# Altium schematic symbol library CHS-01TA.Schlib: 1 symbol
Pins are listed as number, name and electrical type; pins without a type are passive.

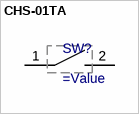
[diagram p0: symbol CHS-01TA]

## CHS-01TA
designator SW?
NIDEC COPAL ELECTRONICS - CHS-01TA - DIP SWITCH, 1POS, SPST, SLIDE, SMD
pins: 1, 2